# EAGLE library part 61801525123 (library 632723100011_Eagle_WR-USB_rev19b)
WR-DSUB Female PCB Connector 15Pins=>Code : Con_I-O_DSUB_PCB_Female_wo-screw_61801525123 <https://katalog.we-online.com/media/images/v2/o60801v209%20Family_I-O_DSUB_PCB_Female_wo-screw_6180xx25123_pf2.jpg> Details see: https://katalog.we-online.com/en/em/DSUB_FEMALE_PCB_CONNECTOR_6180XX25123 Updated by Ella Wu 2019-03-14 2019 (C) Würth Elektronik
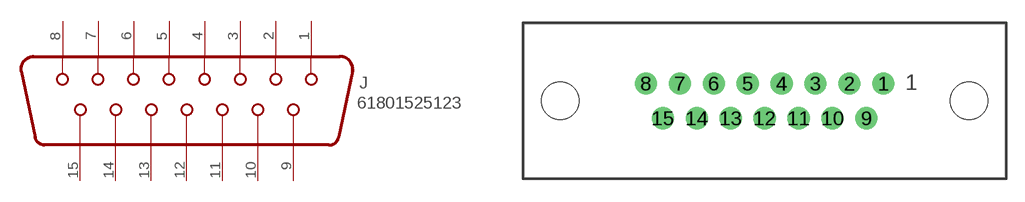
[diagram p5: symbol with the pads of 61801525123; footprint 61801525123]

Designator prefix J

## 61801525123 (WE-NUMBER: 61801525123)  [61801525123]
1  1
2  2
3  3
4  4
5  5
6  6
7  7
8  8
9  9
10  10
11  11
12  12
13  13
14  14
15  15

## Footprint 61801525123 (pad centres in mm)
WR-DSUB Female PCB Connector, 15 Pins
drill 1.2: 1 9.695,1.42; 2 6.925,1.42; 3 4.155,1.42; 4 1.385,1.42; 5 -1.385,1.42; 6 -4.155,1.42; 7 -6.925,1.42; 8 -9.695,1.42; 9 8.31,-1.42; 10 5.54,-1.42; 11 2.77,-1.42; 12 0,-1.42; 13 -2.77,-1.42; 14 -5.54,-1.42; 15 -8.31,-1.42
hole 3.05 at -16.66,0
hole 3.05 at 16.66,0